# Altium integrated library Кондер 100нФ(0.1мкФ).IntLib: 1 symbol
Pins are listed as number, name and electrical type; pins without a type are passive.

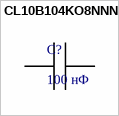
[diagram p0: symbol CL10B104KO8NNNC]

## CL10B104KO8NNNC
designator C?, comment 100 нФ
CL10 Series 0.1 uF 16 V Â±10% Tolerance X7R SMT Multilayer Ceramic Capacitor; Типоразмер: 0603; Точность: 10%; Напряжение: 16; Емкость: 100 нФ; Т коэф. емкости: X7R
footprint CAPC1608X90N
pins: 1, 2